# Altium footprint library TI PCB.PCBLIB: 93 footprints (part 2 of 6)
Each footprint in its own frame and in the unit in brackets; x right, y up, seen from the top. Pads: shape width x height; smd on the part's side, far side on the other; paste and mask are expansions set on the pad; w line width, h text height; cw(c..) or ccw(c..) is an arc to the next point about the centre after c.
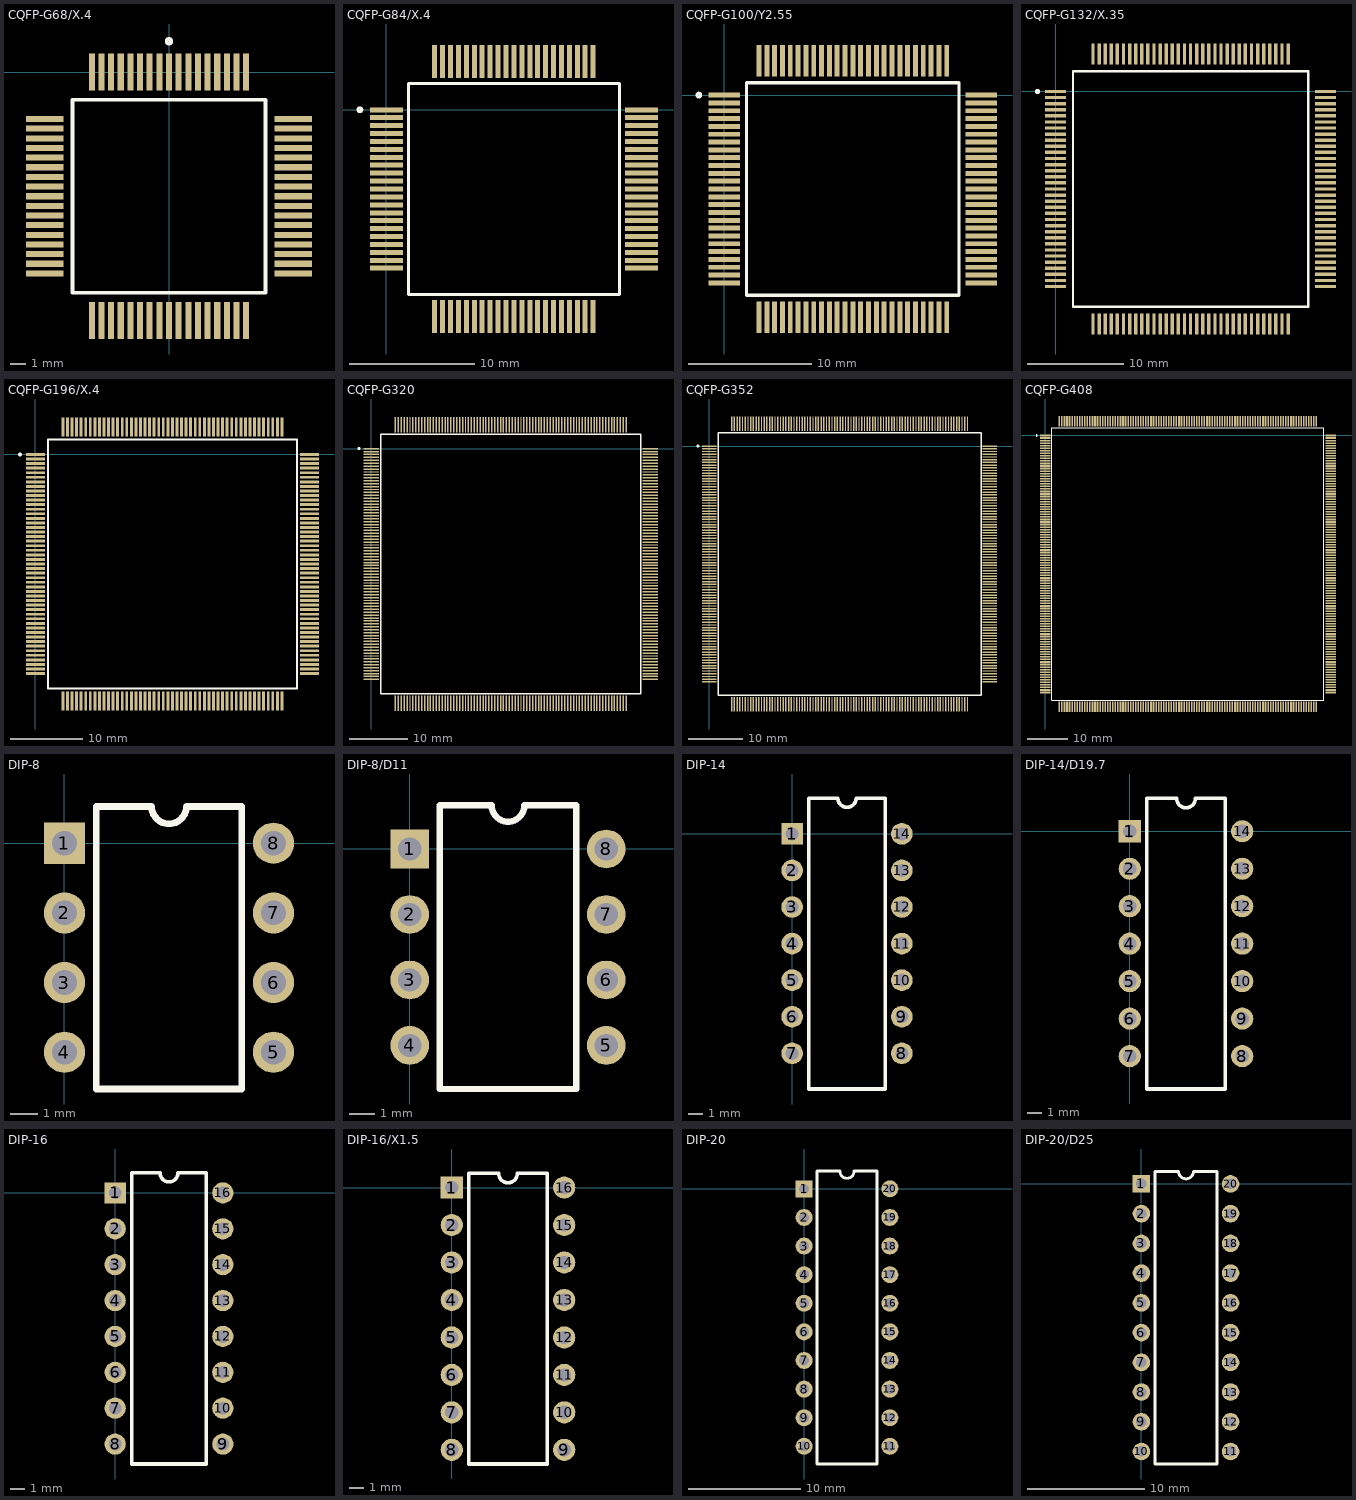
[diagram p1: the footprints below, top view; thin cyan lines are the x and y axes]

## CQFP-G68/X.4 [mm]
pads (68):
  rect 0.4x2.45 smd: 1(0,0) 2(-0.635,0) 3(-1.27,0) 4(-1.905,0) 5(-2.54,0) 6(-3.175,0) 7(-3.81,0) 8(-4.445,0) 9(-5.08,0) 27(-5.08,-16.35) 28(-4.445,-16.35) 29(-3.81,-16.35) 30(-3.175,-16.35) 31(-2.54,-16.35) 32(-1.905,-16.35) 33(-1.27,-16.35) 34(-0.635,-16.35) 35(0,-16.35) 36(0.635,-16.35) 37(1.27,-16.35) 38(1.905,-16.35) 39(2.54,-16.35) 40(3.175,-16.35) 41(3.81,-16.35) 42(4.445,-16.35) 43(5.08,-16.35) 61(5.08,0) 62(4.445,0) 63(3.81,0) 64(3.175,0) 65(2.54,0) 66(1.905,0) 67(1.27,0) 68(0.635,0)
  rect 2.45x0.4 smd: 10(-8.175,-3.095) 11(-8.175,-3.73) 12(-8.175,-4.365) 13(-8.175,-5) 14(-8.175,-5.635) 15(-8.175,-6.27) 16(-8.175,-6.905) 17(-8.175,-7.54) 18(-8.175,-8.175) 19(-8.175,-8.81) 20(-8.175,-9.445) 21(-8.175,-10.08) 22(-8.175,-10.715) 23(-8.175,-11.35) 24(-8.175,-11.985) 25(-8.175,-12.62) 26(-8.175,-13.255) 44(8.175,-13.255) 45(8.175,-12.62) 46(8.175,-11.985) 47(8.175,-11.35) 48(8.175,-10.715) 49(8.175,-10.08) 50(8.175,-9.445) 51(8.175,-8.81) 52(8.175,-8.175) 53(8.175,-7.54) 54(8.175,-6.905) 55(8.175,-6.27) 56(8.175,-5.635) 57(8.175,-5) 58(8.175,-4.365) 59(8.175,-3.73) 60(8.175,-3.095)
Top Overlay:
  circle w0.25: c0,2.025 r0.15
  lines w0.25: -6.35,-14.525 -6.35,-1.825 6.35,-1.825 6.35,-14.525 -6.35,-14.525

## CQFP-G84/X.4 [mm]
pads (84):
  rect 2.65x0.4 smd: 1(0,0) 2(0,-0.635) 3(0,-1.27) 4(0,-1.905) 5(0,-2.54) 6(0,-3.175) 7(0,-3.81) 8(0,-4.445) 9(0,-5.08) 10(0,-5.715) 11(0,-6.35) 12(0,-6.985) 13(0,-7.62) 14(0,-8.255) 15(0,-8.89) 16(0,-9.525) 17(0,-10.16) 18(0,-10.795) 19(0,-11.43) 20(0,-12.065) 21(0,-12.7) 43(20.45,-12.7) 44(20.45,-12.065) 45(20.45,-11.43) 46(20.45,-10.795) 47(20.45,-10.16) 48(20.45,-9.525) 49(20.45,-8.89) 50(20.45,-8.255) 51(20.45,-7.62) 52(20.45,-6.985) 53(20.45,-6.35) 54(20.45,-5.715) 55(20.45,-5.08) 56(20.45,-4.445) 57(20.45,-3.81) 58(20.45,-3.175) 59(20.45,-2.54) 60(20.45,-1.905) 61(20.45,-1.27) 62(20.45,-0.635) 63(20.45,0)
  rect 0.4x2.65 smd: 22(3.875,-16.575) 23(4.51,-16.575) 24(5.145,-16.575) 25(5.78,-16.575) 26(6.415,-16.575) 27(7.05,-16.575) 28(7.685,-16.575) 29(8.32,-16.575) 30(8.955,-16.575) 31(9.59,-16.575) 32(10.225,-16.575) 33(10.86,-16.575) 34(11.495,-16.575) 35(12.13,-16.575) 36(12.765,-16.575) 37(13.4,-16.575) 38(14.035,-16.575) 39(14.67,-16.575) 40(15.305,-16.575) 41(15.94,-16.575) 42(16.575,-16.575) 64(16.575,3.875) 65(15.94,3.875) 66(15.305,3.875) 67(14.67,3.875) 68(14.035,3.875) 69(13.4,3.875) 70(12.765,3.875) 71(12.13,3.875) 72(11.495,3.875) 73(10.86,3.875) 74(10.225,3.875) 75(9.59,3.875) 76(8.955,3.875) 77(8.32,3.875) 78(7.685,3.875) 79(7.05,3.875) 80(6.415,3.875) 81(5.78,3.875) 82(5.145,3.875) 83(4.51,3.875) 84(3.875,3.875)
Top Overlay:
  circle w0.25: c-2.125,0 r0.15
  lines w0.25: 1.775,-14.8 18.675,-14.8 18.675,2.1 1.775,2.1 1.775,-14.8

## CQFP-G100/Y2.55 [mm]
pads (100):
  rect 2.55x0.4 smd: 1(0,0) 2(0,-0.635) 3(0,-1.27) 4(0,-1.905) 5(0,-2.54) 6(0,-3.175) 7(0,-3.81) 8(0,-4.445) 9(0,-5.08) 10(0,-5.715) 11(0,-6.35) 12(0,-6.985) 13(0,-7.62) 14(0,-8.255) 15(0,-8.89) 16(0,-9.525) 17(0,-10.16) 18(0,-10.795) 19(0,-11.43) 20(0,-12.065) 21(0,-12.7) 22(0,-13.335) 23(0,-13.97) 24(0,-14.605) 25(0,-15.24) 51(20.85,-15.24) 52(20.85,-14.605) 53(20.85,-13.97) 54(20.85,-13.335) 55(20.85,-12.7) 56(20.85,-12.065) 57(20.85,-11.43) 58(20.85,-10.795) 59(20.85,-10.16) 60(20.85,-9.525) 61(20.85,-8.89) 62(20.85,-8.255) 63(20.85,-7.62) 64(20.85,-6.985) 65(20.85,-6.35) 66(20.85,-5.715) 67(20.85,-5.08) 68(20.85,-4.445) 69(20.85,-3.81) 70(20.85,-3.175) 71(20.85,-2.54) 72(20.85,-1.905) 73(20.85,-1.27) 74(20.85,-0.635) 75(20.85,0)
  rect 0.4x2.55 smd: 26(2.805,-18.045) 27(3.44,-18.045) 28(4.075,-18.045) 29(4.71,-18.045) 30(5.345,-18.045) 31(5.98,-18.045) 32(6.615,-18.045) 33(7.25,-18.045) 34(7.885,-18.045) 35(8.52,-18.045) 36(9.155,-18.045) 37(9.79,-18.045) 38(10.425,-18.045) 39(11.06,-18.045) 40(11.695,-18.045) 41(12.33,-18.045) 42(12.965,-18.045) 43(13.6,-18.045) 44(14.235,-18.045) 45(14.87,-18.045) 46(15.505,-18.045) 47(16.14,-18.045) 48(16.775,-18.045) 49(17.41,-18.045) 50(18.045,-18.045) 76(18.045,2.805) 77(17.41,2.805) 78(16.775,2.805) 79(16.14,2.805) 80(15.505,2.805) 81(14.87,2.805) 82(14.235,2.805) 83(13.6,2.805) 84(12.965,2.805) 85(12.33,2.805) 86(11.695,2.805) 87(11.06,2.805) 88(10.425,2.805) 89(9.79,2.805) 90(9.155,2.805) 91(8.52,2.805) 92(7.885,2.805) 93(7.25,2.805) 94(6.615,2.805) 95(5.98,2.805) 96(5.345,2.805) 97(4.71,2.805) 98(4.075,2.805) 99(3.44,2.805) 100(2.805,2.805)
Top Overlay:
  circle w0.25: c-2.075,0 r0.15
  lines w0.25: 1.8,-16.245 19.05,-16.245 19.05,1.005 1.8,1.005 1.8,-16.245

## CQFP-G132/X.35 [mm]
pads (132):
  rect 2.2x0.35 smd: 1(0,0) 2(0,-0.635) 3(0,-1.27) 4(0,-1.905) 5(0,-2.54) 6(0,-3.175) 7(0,-3.81) 8(0,-4.445) 9(0,-5.08) 10(0,-5.715) 11(0,-6.35) 12(0,-6.985) 13(0,-7.62) 14(0,-8.255) 15(0,-8.89) 16(0,-9.525) 17(0,-10.16) 18(0,-10.795) 19(0,-11.43) 20(0,-12.065) 21(0,-12.7) 22(0,-13.335) 23(0,-13.97) 24(0,-14.605) 25(0,-15.24) 26(0,-15.875) 27(0,-16.51) 28(0,-17.145) 29(0,-17.78) 30(0,-18.415) 31(0,-19.05) 32(0,-19.685) 33(0,-20.32) 67(28.1,-20.32) 68(28.1,-19.685) 69(28.1,-19.05) 70(28.1,-18.415) 71(28.1,-17.78) 72(28.1,-17.145) 73(28.1,-16.51) 74(28.1,-15.875) 75(28.1,-15.24) 76(28.1,-14.605) 77(28.1,-13.97) 78(28.1,-13.335) 79(28.1,-12.7) 80(28.1,-12.065) 81(28.1,-11.43) 82(28.1,-10.795) 83(28.1,-10.16) 84(28.1,-9.525) 85(28.1,-8.89) 86(28.1,-8.255) 87(28.1,-7.62) 88(28.1,-6.985) 89(28.1,-6.35) 90(28.1,-5.715) 91(28.1,-5.08) 92(28.1,-4.445) 93(28.1,-3.81) 94(28.1,-3.175) 95(28.1,-2.54) 96(28.1,-1.905) 97(28.1,-1.27) 98(28.1,-0.635) 99(28.1,0)
  rect 0.35x2.2 smd: 34(3.89,-24.21) 35(4.525,-24.21) 36(5.16,-24.21) 37(5.795,-24.21) 38(6.43,-24.21) 39(7.065,-24.21) 40(7.7,-24.21) 41(8.335,-24.21) 42(8.97,-24.21) 43(9.605,-24.21) 44(10.24,-24.21) 45(10.875,-24.21) 46(11.51,-24.21) 47(12.145,-24.21) 48(12.78,-24.21) 49(13.415,-24.21) 50(14.05,-24.21) 51(14.685,-24.21) 52(15.32,-24.21) 53(15.955,-24.21) 54(16.59,-24.21) 55(17.225,-24.21) 56(17.86,-24.21) 57(18.495,-24.21) 58(19.13,-24.21) 59(19.765,-24.21) 60(20.4,-24.21) 61(21.035,-24.21) 62(21.67,-24.21) 63(22.305,-24.21) 64(22.94,-24.21) 65(23.575,-24.21) 66(24.21,-24.21) 100(24.21,3.89) 101(23.575,3.89) 102(22.94,3.89) 103(22.305,3.89) 104(21.67,3.89) 105(21.035,3.89) 106(20.4,3.89) 107(19.765,3.89) 108(19.13,3.89) 109(18.495,3.89) 110(17.86,3.89) 111(17.225,3.89) 112(16.59,3.89) 113(15.955,3.89) 114(15.32,3.89) 115(14.685,3.89) 116(14.05,3.89) 117(13.415,3.89) 118(12.78,3.89) 119(12.145,3.89) 120(11.51,3.89) 121(10.875,3.89) 122(10.24,3.89) 123(9.605,3.89) 124(8.97,3.89) 125(8.335,3.89) 126(7.7,3.89) 127(7.065,3.89) 128(6.43,3.89) 129(5.795,3.89) 130(5.16,3.89) 131(4.525,3.89) 132(3.89,3.89)
Top Overlay:
  circle w0.25: c-1.9,0 r0.15
  lines w0.25: 1.8,-22.41 26.3,-22.41 26.3,2.09 1.8,2.09 1.8,-22.41

## CQFP-G196/X.4 [mm]
pads (196):
  rect 2.65x0.4 smd: 1(0,0) 2(0,-0.635) 3(0,-1.27) 4(0,-1.905) 5(0,-2.54) 6(0,-3.175) 7(0,-3.81) 8(0,-4.445) 9(0,-5.08) 10(0,-5.715) 11(0,-6.35) 12(0,-6.985) 13(0,-7.62) 14(0,-8.255) 15(0,-8.89) 16(0,-9.525) 17(0,-10.16) 18(0,-10.795) 19(0,-11.43) 20(0,-12.065) 21(0,-12.7) 22(0,-13.335) 23(0,-13.97) 24(0,-14.605) 25(0,-15.24) 26(0,-15.875) 27(0,-16.51) 28(0,-17.145) 29(0,-17.78) 30(0,-18.415) 31(0,-19.05) 32(0,-19.685) 33(0,-20.32) 34(0,-20.955) 35(0,-21.59) 36(0,-22.225) 37(0,-22.86) 38(0,-23.495) 39(0,-24.13) 40(0,-24.765) 41(0,-25.4) 42(0,-26.035) 43(0,-26.67) 44(0,-27.305) 45(0,-27.94) 46(0,-28.575) 47(0,-29.21) 48(0,-29.845) 49(0,-30.48) 99(38.15,-30.48) 100(38.15,-29.845) 101(38.15,-29.21) 102(38.15,-28.575) 103(38.15,-27.94) 104(38.15,-27.305) 105(38.15,-26.67) 106(38.15,-26.035) 107(38.15,-25.4) 108(38.15,-24.765) 109(38.15,-24.13) 110(38.15,-23.495) 111(38.15,-22.86) 112(38.15,-22.225) 113(38.15,-21.59) 114(38.15,-20.955) 115(38.15,-20.32) 116(38.15,-19.685) 117(38.15,-19.05) 118(38.15,-18.415) 119(38.15,-17.78) 120(38.15,-17.145) 121(38.15,-16.51) 122(38.15,-15.875) 123(38.15,-15.24) 124(38.15,-14.605) 125(38.15,-13.97) 126(38.15,-13.335) 127(38.15,-12.7) 128(38.15,-12.065) 129(38.15,-11.43) 130(38.15,-10.795) 131(38.15,-10.16) 132(38.15,-9.525) 133(38.15,-8.89) 134(38.15,-8.255) 135(38.15,-7.62) 136(38.15,-6.985) 137(38.15,-6.35) 138(38.15,-5.715) 139(38.15,-5.08) 140(38.15,-4.445) 141(38.15,-3.81) 142(38.15,-3.175) 143(38.15,-2.54) 144(38.15,-1.905) 145(38.15,-1.27) 146(38.15,-0.635) 147(38.15,0)
  rect 0.4x2.65 smd: 50(3.835,-34.315) 51(4.47,-34.315) 52(5.105,-34.315) 53(5.74,-34.315) 54(6.375,-34.315) 55(7.01,-34.315) 56(7.645,-34.315) 57(8.28,-34.315) 58(8.915,-34.315) 59(9.55,-34.315) 60(10.185,-34.315) 61(10.82,-34.315) 62(11.455,-34.315) 63(12.09,-34.315) 64(12.725,-34.315) 65(13.36,-34.315) 66(13.995,-34.315) 67(14.63,-34.315) 68(15.265,-34.315) 69(15.9,-34.315) 70(16.535,-34.315) 71(17.17,-34.315) 72(17.805,-34.315) 73(18.44,-34.315) 74(19.075,-34.315) 75(19.71,-34.315) 76(20.345,-34.315) 77(20.98,-34.315) 78(21.615,-34.315) 79(22.25,-34.315) 80(22.885,-34.315) 81(23.52,-34.315) 82(24.155,-34.315) 83(24.79,-34.315) 84(25.425,-34.315) 85(26.06,-34.315) 86(26.695,-34.315) 87(27.33,-34.315) 88(27.965,-34.315) 89(28.6,-34.315) 90(29.235,-34.315) 91(29.87,-34.315) 92(30.505,-34.315) 93(31.14,-34.315) 94(31.775,-34.315) 95(32.41,-34.315) 96(33.045,-34.315) 97(33.68,-34.315) 98(34.315,-34.315) 148(34.315,3.835) 149(33.68,3.835) 150(33.045,3.835) 151(32.41,3.835) 152(31.775,3.835) 153(31.14,3.835) 154(30.505,3.835) 155(29.87,3.835) 156(29.235,3.835) 157(28.6,3.835) 158(27.965,3.835) 159(27.33,3.835) 160(26.695,3.835) 161(26.06,3.835) 162(25.425,3.835) 163(24.79,3.835) 164(24.155,3.835) 165(23.52,3.835) 166(22.885,3.835) 167(22.25,3.835) 168(21.615,3.835) 169(20.98,3.835) 170(20.345,3.835) 171(19.71,3.835) 172(19.075,3.835) 173(18.44,3.835) 174(17.805,3.835) 175(17.17,3.835) 176(16.535,3.835) 177(15.9,3.835) 178(15.265,3.835) 179(14.63,3.835) 180(13.995,3.835) 181(13.36,3.835) 182(12.725,3.835) 183(12.09,3.835) 184(11.455,3.835) 185(10.82,3.835) 186(10.185,3.835) 187(9.55,3.835) 188(8.915,3.835) 189(8.28,3.835) 190(7.645,3.835) 191(7.01,3.835) 192(6.375,3.835) 193(5.74,3.835) 194(5.105,3.835) 195(4.47,3.835) 196(3.835,3.835)
Top Overlay:
  circle w0.25: c-2.125,0 r0.15
  lines w0.25: 1.75,-32.565 1.75,2.085 36.4,2.085 36.4,-32.565 1.75,-32.565

## CQFP-G320 [mm]
pads (320):
  rect 2.65x0.25 smd: 1(0,0) 2(0,-0.5) 3(0,-1) 4(0,-1.5) 5(0,-2) 6(0,-2.5) 7(0,-3) 8(0,-3.5) 9(0,-4) 10(0,-4.5) 11(0,-5) 12(0,-5.5) 13(0,-6) 14(0,-6.5) 15(0,-7) 16(0,-7.5) 17(0,-8) 18(0,-8.5) 19(0,-9) 20(0,-9.5) 21(0,-10) 22(0,-10.5) 23(0,-11) 24(0,-11.5) 25(0,-12) 26(0,-12.5) 27(0,-13) 28(0,-13.5) 29(0,-14) 30(0,-14.5) 31(0,-15) 32(0,-15.5) 33(0,-16) 34(0,-16.5) 35(0,-17) 36(0,-17.5) 37(0,-18) 38(0,-18.5) 39(0,-19) 40(0,-19.5) 41(0,-20) 42(0,-20.5) 43(0,-21) 44(0,-21.5) 45(0,-22) 46(0,-22.5) 47(0,-23) 48(0,-23.5) 49(0,-24) 50(0,-24.5) 51(0,-25) 52(0,-25.5) 53(0,-26) 54(0,-26.5) 55(0,-27) 56(0,-27.5) 57(0,-28) 58(0,-28.5) 59(0,-29) 60(0,-29.5) 61(0,-30) 62(0,-30.5) 63(0,-31) 64(0,-31.5) 65(0,-32) 66(0,-32.5) 67(0,-33) 68(0,-33.5) 69(0,-34) 70(0,-34.5) 71(0,-35) 72(0,-35.5) 73(0,-36) 74(0,-36.5) 75(0,-37) 76(0,-37.5) 77(0,-38) 78(0,-38.5) 79(0,-39) 80(0,-39.5) 161(47.75,-39.5) 162(47.75,-39) 163(47.75,-38.5) 164(47.75,-38) 165(47.75,-37.5) 166(47.75,-37) 167(47.75,-36.5) 168(47.75,-36) 169(47.75,-35.5) 170(47.75,-35) 171(47.75,-34.5) 172(47.75,-34) 173(47.75,-33.5) 174(47.75,-33) 175(47.75,-32.5) 176(47.75,-32) 177(47.75,-31.5) 178(47.75,-31) 179(47.75,-30.5) 180(47.75,-30) 181(47.75,-29.5) 182(47.75,-29) 183(47.75,-28.5) 184(47.75,-28) 185(47.75,-27.5) 186(47.75,-27) 187(47.75,-26.5) 188(47.75,-26) 189(47.75,-25.5) 190(47.75,-25) 191(47.75,-24.5) 192(47.75,-24) 193(47.75,-23.5) 194(47.75,-23) 195(47.75,-22.5) 196(47.75,-22) 197(47.75,-21.5) 198(47.75,-21) 199(47.75,-20.5) 200(47.75,-20) 201(47.75,-19.5) 202(47.75,-19) 203(47.75,-18.5) 204(47.75,-18) 205(47.75,-17.5) 206(47.75,-17) 207(47.75,-16.5) 208(47.75,-16) 209(47.75,-15.5) 210(47.75,-15) 211(47.75,-14.5) 212(47.75,-14) 213(47.75,-13.5) 214(47.75,-13) 215(47.75,-12.5) 216(47.75,-12) 217(47.75,-11.5) 218(47.75,-11) 219(47.75,-10.5) 220(47.75,-10) 221(47.75,-9.5) 222(47.75,-9) 223(47.75,-8.5) 224(47.75,-8) 225(47.75,-7.5) 226(47.75,-7) 227(47.75,-6.5) 228(47.75,-6) 229(47.75,-5.5) 230(47.75,-5) 231(47.75,-4.5) 232(47.75,-4) 233(47.75,-3.5) 234(47.75,-3) 235(47.75,-2.5) 236(47.75,-2) 237(47.75,-1.5) 238(47.75,-1) 239(47.75,-0.5) 240(47.75,0)
  rect 0.25x2.65 smd: 81(4.125,-43.625) 82(4.625,-43.625) 83(5.125,-43.625) 84(5.625,-43.625) 85(6.125,-43.625) 86(6.625,-43.625) 87(7.125,-43.625) 88(7.625,-43.625) 89(8.125,-43.625) 90(8.625,-43.625) 91(9.125,-43.625) 92(9.625,-43.625) 93(10.125,-43.625) 94(10.625,-43.625) 95(11.125,-43.625) 96(11.625,-43.625) 97(12.125,-43.625) 98(12.625,-43.625) 99(13.125,-43.625) 100(13.625,-43.625) 101(14.125,-43.625) 102(14.625,-43.625) 103(15.125,-43.625) 104(15.625,-43.625) 105(16.125,-43.625) 106(16.625,-43.625) 107(17.125,-43.625) 108(17.625,-43.625) 109(18.125,-43.625) 110(18.625,-43.625) 111(19.125,-43.625) 112(19.625,-43.625) 113(20.125,-43.625) 114(20.625,-43.625) 115(21.125,-43.625) 116(21.625,-43.625) 117(22.125,-43.625) 118(22.625,-43.625) 119(23.125,-43.625) 120(23.625,-43.625) 121(24.125,-43.625) 122(24.625,-43.625) 123(25.125,-43.625) 124(25.625,-43.625) 125(26.125,-43.625) 126(26.625,-43.625) 127(27.125,-43.625) 128(27.625,-43.625) 129(28.125,-43.625) 130(28.625,-43.625) 131(29.125,-43.625) 132(29.625,-43.625) 133(30.125,-43.625) 134(30.625,-43.625) 135(31.125,-43.625) 136(31.625,-43.625) 137(32.125,-43.625) 138(32.625,-43.625) 139(33.125,-43.625) 140(33.625,-43.625) 141(34.125,-43.625) 142(34.625,-43.625) 143(35.125,-43.625) 144(35.625,-43.625) 145(36.125,-43.625) 146(36.625,-43.625) 147(37.125,-43.625) 148(37.625,-43.625) 149(38.125,-43.625) 150(38.625,-43.625) 151(39.125,-43.625) 152(39.625,-43.625) 153(40.125,-43.625) 154(40.625,-43.625) 155(41.125,-43.625) 156(41.625,-43.625) 157(42.125,-43.625) 158(42.625,-43.625) 159(43.125,-43.625) 160(43.625,-43.625) 241(43.625,4.125) 242(43.125,4.125) 243(42.625,4.125) 244(42.125,4.125) 245(41.625,4.125) 246(41.125,4.125) 247(40.625,4.125) 248(40.125,4.125) 249(39.625,4.125) 250(39.125,4.125) 251(38.625,4.125) 252(38.125,4.125) 253(37.625,4.125) 254(37.125,4.125) 255(36.625,4.125) 256(36.125,4.125) 257(35.625,4.125) 258(35.125,4.125) 259(34.625,4.125) 260(34.125,4.125) 261(33.625,4.125) 262(33.125,4.125) 263(32.625,4.125) 264(32.125,4.125) 265(31.625,4.125) 266(31.125,4.125) 267(30.625,4.125) 268(30.125,4.125) 269(29.625,4.125) 270(29.125,4.125) 271(28.625,4.125) 272(28.125,4.125) 273(27.625,4.125) 274(27.125,4.125) 275(26.625,4.125) 276(26.125,4.125) 277(25.625,4.125) 278(25.125,4.125) 279(24.625,4.125) 280(24.125,4.125) 281(23.625,4.125) 282(23.125,4.125) 283(22.625,4.125) 284(22.125,4.125) 285(21.625,4.125) 286(21.125,4.125) 287(20.625,4.125) 288(20.125,4.125) 289(19.625,4.125) 290(19.125,4.125) 291(18.625,4.125) 292(18.125,4.125) 293(17.625,4.125) 294(17.125,4.125) 295(16.625,4.125) 296(16.125,4.125) 297(15.625,4.125) 298(15.125,4.125) 299(14.625,4.125) 300(14.125,4.125) 301(13.625,4.125) 302(13.125,4.125) 303(12.625,4.125) 304(12.125,4.125) 305(11.625,4.125) 306(11.125,4.125) 307(10.625,4.125) 308(10.125,4.125) 309(9.625,4.125) 310(9.125,4.125) 311(8.625,4.125) 312(8.125,4.125) 313(7.625,4.125) 314(7.125,4.125) 315(6.625,4.125) 316(6.125,4.125) 317(5.625,4.125) 318(5.125,4.125) 319(4.625,4.125) 320(4.125,4.125)
Top Overlay:
  circle w0.25: c-2.125,0 r0.15
  lines w0.25: 1.65,-41.975 1.65,2.475 46.1,2.475 46.1,-41.975 1.65,-41.975

## CQFP-G352 [mm]
pads (352):
  rect 2.65x0.25 smd: 1(0,0) 2(0,-0.5) 3(0,-1) 4(0,-1.5) 5(0,-2) 6(0,-2.5) 7(0,-3) 8(0,-3.5) 9(0,-4) 10(0,-4.5) 11(0,-5) 12(0,-5.5) 13(0,-6) 14(0,-6.5) 15(0,-7) 16(0,-7.5) 17(0,-8) 18(0,-8.5) 19(0,-9) 20(0,-9.5) 21(0,-10) 22(0,-10.5) 23(0,-11) 24(0,-11.5) 25(0,-12) 26(0,-12.5) 27(0,-13) 28(0,-13.5) 29(0,-14) 30(0,-14.5) 31(0,-15) 32(0,-15.5) 33(0,-16) 34(0,-16.5) 35(0,-17) 36(0,-17.5) 37(0,-18) 38(0,-18.5) 39(0,-19) 40(0,-19.5) 41(0,-20) 42(0,-20.5) 43(0,-21) 44(0,-21.5) 45(0,-22) 46(0,-22.5) 47(0,-23) 48(0,-23.5) 49(0,-24) 50(0,-24.5) 51(0,-25) 52(0,-25.5) 53(0,-26) 54(0,-26.5) 55(0,-27) 56(0,-27.5) 57(0,-28) 58(0,-28.5) 59(0,-29) 60(0,-29.5) 61(0,-30) 62(0,-30.5) 63(0,-31) 64(0,-31.5) 65(0,-32) 66(0,-32.5) 67(0,-33) 68(0,-33.5) 69(0,-34) 70(0,-34.5) 71(0,-35) 72(0,-35.5) 73(0,-36) 74(0,-36.5) 75(0,-37) 76(0,-37.5) 77(0,-38) 78(0,-38.5) 79(0,-39) 80(0,-39.5) 81(0,-40) 82(0,-40.5) 83(0,-41) 84(0,-41.5) 85(0,-42) 86(0,-42.5) 87(0,-43) 88(0,-43.5) 177(51.75,-43.5) 178(51.75,-43) 179(51.75,-42.5) 180(51.75,-42) 181(51.75,-41.5) 182(51.75,-41) 183(51.75,-40.5) 184(51.75,-40) 185(51.75,-39.5) 186(51.75,-39) 187(51.75,-38.5) 188(51.75,-38) 189(51.75,-37.5) 190(51.75,-37) 191(51.75,-36.5) 192(51.75,-36) 193(51.75,-35.5) 194(51.75,-35) 195(51.75,-34.5) 196(51.75,-34) 197(51.75,-33.5) 198(51.75,-33) 199(51.75,-32.5) 200(51.75,-32) 201(51.75,-31.5) 202(51.75,-31) 203(51.75,-30.5) 204(51.75,-30) 205(51.75,-29.5) 206(51.75,-29) 207(51.75,-28.5) 208(51.75,-28) 209(51.75,-27.5) 210(51.75,-27) 211(51.75,-26.5) 212(51.75,-26) 213(51.75,-25.5) 214(51.75,-25) 215(51.75,-24.5) 216(51.75,-24) 217(51.75,-23.5) 218(51.75,-23) 219(51.75,-22.5) 220(51.75,-22) 221(51.75,-21.5) 222(51.75,-21) 223(51.75,-20.5) 224(51.75,-20) 225(51.75,-19.5) 226(51.75,-19) 227(51.75,-18.5) 228(51.75,-18) 229(51.75,-17.5) 230(51.75,-17) 231(51.75,-16.5) 232(51.75,-16) 233(51.75,-15.5) 234(51.75,-15) 235(51.75,-14.5) 236(51.75,-14) 237(51.75,-13.5) 238(51.75,-13) 239(51.75,-12.5) 240(51.75,-12) 241(51.75,-11.5) 242(51.75,-11) 243(51.75,-10.5) 244(51.75,-10) 245(51.75,-9.5) 246(51.75,-9) 247(51.75,-8.5) 248(51.75,-8) 249(51.75,-7.5) 250(51.75,-7) 251(51.75,-6.5) 252(51.75,-6) 253(51.75,-5.5) 254(51.75,-5) 255(51.75,-4.5) 256(51.75,-4) 257(51.75,-3.5) 258(51.75,-3) 259(51.75,-2.5) 260(51.75,-2) 261(51.75,-1.5) 262(51.75,-1) 263(51.75,-0.5) 264(51.75,0)
  rect 0.25x2.65 smd: 89(4.125,-47.625) 90(4.625,-47.625) 91(5.125,-47.625) 92(5.625,-47.625) 93(6.125,-47.625) 94(6.625,-47.625) 95(7.125,-47.625) 96(7.625,-47.625) 97(8.125,-47.625) 98(8.625,-47.625) 99(9.125,-47.625) 100(9.625,-47.625) 101(10.125,-47.625) 102(10.625,-47.625) 103(11.125,-47.625) 104(11.625,-47.625) 105(12.125,-47.625) 106(12.625,-47.625) 107(13.125,-47.625) 108(13.625,-47.625) 109(14.125,-47.625) 110(14.625,-47.625) 111(15.125,-47.625) 112(15.625,-47.625) 113(16.125,-47.625) 114(16.625,-47.625) 115(17.125,-47.625) 116(17.625,-47.625) 117(18.125,-47.625) 118(18.625,-47.625) 119(19.125,-47.625) 120(19.625,-47.625) 121(20.125,-47.625) 122(20.625,-47.625) 123(21.125,-47.625) 124(21.625,-47.625) 125(22.125,-47.625) 126(22.625,-47.625) 127(23.125,-47.625) 128(23.625,-47.625) 129(24.125,-47.625) 130(24.625,-47.625) 131(25.125,-47.625) 132(25.625,-47.625) 133(26.125,-47.625) 134(26.625,-47.625) 135(27.125,-47.625) 136(27.625,-47.625) 137(28.125,-47.625) 138(28.625,-47.625) 139(29.125,-47.625) 140(29.625,-47.625) 141(30.125,-47.625) 142(30.625,-47.625) 143(31.125,-47.625) 144(31.625,-47.625) 145(32.125,-47.625) 146(32.625,-47.625) 147(33.125,-47.625) 148(33.625,-47.625) 149(34.125,-47.625) 150(34.625,-47.625) 151(35.125,-47.625) 152(35.625,-47.625) 153(36.125,-47.625) 154(36.625,-47.625) 155(37.125,-47.625) 156(37.625,-47.625) 157(38.125,-47.625) 158(38.625,-47.625) 159(39.125,-47.625) 160(39.625,-47.625) 161(40.125,-47.625) 162(40.625,-47.625) 163(41.125,-47.625) 164(41.625,-47.625) 165(42.125,-47.625) 166(42.625,-47.625) 167(43.125,-47.625) 168(43.625,-47.625) 169(44.125,-47.625) 170(44.625,-47.625) 171(45.125,-47.625) 172(45.625,-47.625) 173(46.125,-47.625) 174(46.625,-47.625) 175(47.125,-47.625) 176(47.625,-47.625) 265(47.625,4.125) 266(47.125,4.125) 267(46.625,4.125) 268(46.125,4.125) 269(45.625,4.125) 270(45.125,4.125) 271(44.625,4.125) 272(44.125,4.125) 273(43.625,4.125) 274(43.125,4.125) 275(42.625,4.125) 276(42.125,4.125) 277(41.625,4.125) 278(41.125,4.125) 279(40.625,4.125) 280(40.125,4.125) 281(39.625,4.125) 282(39.125,4.125) 283(38.625,4.125) 284(38.125,4.125) 285(37.625,4.125) 286(37.125,4.125) 287(36.625,4.125) 288(36.125,4.125) 289(35.625,4.125) 290(35.125,4.125) 291(34.625,4.125) 292(34.125,4.125) 293(33.625,4.125) 294(33.125,4.125) 295(32.625,4.125) 296(32.125,4.125) 297(31.625,4.125) 298(31.125,4.125) 299(30.625,4.125) 300(30.125,4.125) 301(29.625,4.125) 302(29.125,4.125) 303(28.625,4.125) 304(28.125,4.125) 305(27.625,4.125) 306(27.125,4.125) 307(26.625,4.125) 308(26.125,4.125) 309(25.625,4.125) 310(25.125,4.125) 311(24.625,4.125) 312(24.125,4.125) 313(23.625,4.125) 314(23.125,4.125) 315(22.625,4.125) 316(22.125,4.125) 317(21.625,4.125) 318(21.125,4.125) 319(20.625,4.125) 320(20.125,4.125) 321(19.625,4.125) 322(19.125,4.125) 323(18.625,4.125) 324(18.125,4.125) 325(17.625,4.125) 326(17.125,4.125) 327(16.625,4.125) 328(16.125,4.125) 329(15.625,4.125) 330(15.125,4.125) 331(14.625,4.125) 332(14.125,4.125) 333(13.625,4.125) 334(13.125,4.125) 335(12.625,4.125) 336(12.125,4.125) 337(11.625,4.125) 338(11.125,4.125) 339(10.625,4.125) 340(10.125,4.125) 341(9.625,4.125) 342(9.125,4.125) 343(8.625,4.125) 344(8.125,4.125) 345(7.625,4.125) 346(7.125,4.125) 347(6.625,4.125) 348(6.125,4.125) 349(5.625,4.125) 350(5.125,4.125) 351(4.625,4.125) 352(4.125,4.125)
Top Overlay:
  circle w0.25: c-2.125,0 r0.15
  lines w0.25: 1.625,-46 50.125,-46 50.125,2.5 1.625,2.5 1.625,-46

## CQFP-G408 [mm]
pads (408):
  rect 2.65x0.4 smd: 1(0,0) 2(0,-0.635) 3(0,-1.27) 4(0,-1.905) 5(0,-2.54) 6(0,-3.175) 7(0,-3.81) 8(0,-4.445) 9(0,-5.08) 10(0,-5.715) 11(0,-6.35) 12(0,-6.985) 13(0,-7.62) 14(0,-8.255) 15(0,-8.89) 16(0,-9.525) 17(0,-10.16) 18(0,-10.795) 19(0,-11.43) 20(0,-12.065) 21(0,-12.7) 22(0,-13.335) 23(0,-13.97) 24(0,-14.605) 25(0,-15.24) 26(0,-15.875) 27(0,-16.51) 28(0,-17.145) 29(0,-17.78) 30(0,-18.415) 31(0,-19.05) 32(0,-19.685) 33(0,-20.32) 34(0,-20.955) 35(0,-21.59) 36(0,-22.225) 37(0,-22.86) 38(0,-23.495) 39(0,-24.13) 40(0,-24.765) 41(0,-25.4) 42(0,-26.035) 43(0,-26.67) 44(0,-27.305) 45(0,-27.94) 46(0,-28.575) 47(0,-29.21) 48(0,-29.845) 49(0,-30.48) 50(0,-31.115) 51(0,-31.75) 52(0,-32.385) 53(0,-33.02) 54(0,-33.655) 55(0,-34.29) 56(0,-34.925) 57(0,-35.56) 58(0,-36.195) 59(0,-36.83) 60(0,-37.465) 61(0,-38.1) 62(0,-38.735) 63(0,-39.37) 64(0,-40.005) 65(0,-40.64) 66(0,-41.275) 67(0,-41.91) 68(0,-42.545) 69(0,-43.18) 70(0,-43.815) 71(0,-44.45) 72(0,-45.085) 73(0,-45.72) 74(0,-46.355) 75(0,-46.99) 76(0,-47.625) 77(0,-48.26) 78(0,-48.895) 79(0,-49.53) 80(0,-50.165) 81(0,-50.8) 82(0,-51.435) 83(0,-52.07) 84(0,-52.705) 85(0,-53.34) 86(0,-53.975) 87(0,-54.61) 88(0,-55.245) 89(0,-55.88) 90(0,-56.515) 91(0,-57.15) 92(0,-57.785) 93(0,-58.42) 94(0,-59.055) 95(0,-59.69) 96(0,-60.325) 97(0,-60.96) 98(0,-61.595) 99(0,-62.23) 100(0,-62.865) 101(0,-63.5) 102(0,-64.135) 205(71.25,-64.135) 206(71.25,-63.5) 207(71.25,-62.865) 208(71.25,-62.23) 209(71.25,-61.595) 210(71.25,-60.96) 211(71.25,-60.325) 212(71.25,-59.69) 213(71.25,-59.055) 214(71.25,-58.42) 215(71.25,-57.785) 216(71.25,-57.15) 217(71.25,-56.515) 218(71.25,-55.88) 219(71.25,-55.245) 220(71.25,-54.61) 221(71.25,-53.975) 222(71.25,-53.34) 223(71.25,-52.705) 224(71.25,-52.07) 225(71.25,-51.435) 226(71.25,-50.8) 227(71.25,-50.165) 228(71.25,-49.53) 229(71.25,-48.895) 230(71.25,-48.26) 231(71.25,-47.625) 232(71.25,-46.99) 233(71.25,-46.355) 234(71.25,-45.72) 235(71.25,-45.085) 236(71.25,-44.45) 237(71.25,-43.815) 238(71.25,-43.18) 239(71.25,-42.545) 240(71.25,-41.91) 241(71.25,-41.275) 242(71.25,-40.64) 243(71.25,-40.005) 244(71.25,-39.37) 245(71.25,-38.735) 246(71.25,-38.1) 247(71.25,-37.465) 248(71.25,-36.83) 249(71.25,-36.195) 250(71.25,-35.56) 251(71.25,-34.925) 252(71.25,-34.29) 253(71.25,-33.655) 254(71.25,-33.02) 255(71.25,-32.385) 256(71.25,-31.75) 257(71.25,-31.115) 258(71.25,-30.48) 259(71.25,-29.845) 260(71.25,-29.21) 261(71.25,-28.575) 262(71.25,-27.94) 263(71.25,-27.305) 264(71.25,-26.67) 265(71.25,-26.035) 266(71.25,-25.4) 267(71.25,-24.765) 268(71.25,-24.13) 269(71.25,-23.495) 270(71.25,-22.86) 271(71.25,-22.225) 272(71.25,-21.59) 273(71.25,-20.955) 274(71.25,-20.32) 275(71.25,-19.685) 276(71.25,-19.05) 277(71.25,-18.415) 278(71.25,-17.78) 279(71.25,-17.145) 280(71.25,-16.51) 281(71.25,-15.875) 282(71.25,-15.24) 283(71.25,-14.605) 284(71.25,-13.97) 285(71.25,-13.335) 286(71.25,-12.7) 287(71.25,-12.065) 288(71.25,-11.43) 289(71.25,-10.795) 290(71.25,-10.16) 291(71.25,-9.525) 292(71.25,-8.89) 293(71.25,-8.255) 294(71.25,-7.62) 295(71.25,-6.985) 296(71.25,-6.35) 297(71.25,-5.715) 298(71.25,-5.08) 299(71.25,-4.445) 300(71.25,-3.81) 301(71.25,-3.175) 302(71.25,-2.54) 303(71.25,-1.905) 304(71.25,-1.27) 305(71.25,-0.635) 306(71.25,0)
  rect 0.4x2.65 smd: 103(3.555,-67.695) 104(4.19,-67.695) 105(4.825,-67.695) 106(5.46,-67.695) 107(6.095,-67.695) 108(6.73,-67.695) 109(7.365,-67.695) 110(8,-67.695) 111(8.635,-67.695) 112(9.27,-67.695) 113(9.905,-67.695) 114(10.54,-67.695) 115(11.175,-67.695) 116(11.81,-67.695) 117(12.445,-67.695) 118(13.08,-67.695) 119(13.715,-67.695) 120(14.35,-67.695) 121(14.985,-67.695) 122(15.62,-67.695) 123(16.255,-67.695) 124(16.89,-67.695) 125(17.525,-67.695) 126(18.16,-67.695) 127(18.795,-67.695) 128(19.43,-67.695) 129(20.065,-67.695) 130(20.7,-67.695) 131(21.335,-67.695) 132(21.97,-67.695) 133(22.605,-67.695) 134(23.24,-67.695) 135(23.875,-67.695) 136(24.51,-67.695) 137(25.145,-67.695) 138(25.78,-67.695) 139(26.415,-67.695) 140(27.05,-67.695) 141(27.685,-67.695) 142(28.32,-67.695) 143(28.955,-67.695) 144(29.59,-67.695) 145(30.225,-67.695) 146(30.86,-67.695) 147(31.495,-67.695) 148(32.13,-67.695) 149(32.765,-67.695) 150(33.4,-67.695) 151(34.035,-67.695) 152(34.67,-67.695) 153(35.305,-67.695) 154(35.94,-67.695) 155(36.575,-67.695) 156(37.21,-67.695) 157(37.845,-67.695) 158(38.48,-67.695) 159(39.115,-67.695) 160(39.75,-67.695) 161(40.385,-67.695) 162(41.02,-67.695) 163(41.655,-67.695) 164(42.29,-67.695) 165(42.925,-67.695) 166(43.56,-67.695) 167(44.195,-67.695) 168(44.83,-67.695) 169(45.465,-67.695) 170(46.1,-67.695) 171(46.735,-67.695) 172(47.37,-67.695) 173(48.005,-67.695) 174(48.64,-67.695) 175(49.275,-67.695) 176(49.91,-67.695) 177(50.545,-67.695) 178(51.18,-67.695) 179(51.815,-67.695) 180(52.45,-67.695) 181(53.085,-67.695) 182(53.72,-67.695) 183(54.355,-67.695) 184(54.99,-67.695) 185(55.625,-67.695) 186(56.26,-67.695) 187(56.895,-67.695) 188(57.53,-67.695) 189(58.165,-67.695) 190(58.8,-67.695) 191(59.435,-67.695) 192(60.07,-67.695) 193(60.705,-67.695) 194(61.34,-67.695) 195(61.975,-67.695) 196(62.61,-67.695) 197(63.245,-67.695) 198(63.88,-67.695) 199(64.515,-67.695) 200(65.15,-67.695) 201(65.785,-67.695) 202(66.42,-67.695) 203(67.055,-67.695) 204(67.69,-67.695) 307(67.69,3.555) 308(67.055,3.555) 309(66.42,3.555) 310(65.785,3.555) 311(65.15,3.555) 312(64.515,3.555) 313(63.88,3.555) 314(63.245,3.555) 315(62.61,3.555) 316(61.975,3.555) 317(61.34,3.555) 318(60.705,3.555) 319(60.07,3.555) 320(59.435,3.555) 321(58.8,3.555) 322(58.165,3.555) 323(57.53,3.555) 324(56.895,3.555) 325(56.26,3.555) 326(55.625,3.555) 327(54.99,3.555) 328(54.355,3.555) 329(53.72,3.555) 330(53.085,3.555) 331(52.45,3.555) 332(51.815,3.555) 333(51.18,3.555) 334(50.545,3.555) 335(49.91,3.555) 336(49.275,3.555) 337(48.64,3.555) 338(48.005,3.555) 339(47.37,3.555) 340(46.735,3.555) 341(46.1,3.555) 342(45.465,3.555) 343(44.83,3.555) 344(44.195,3.555) 345(43.56,3.555) 346(42.925,3.555) 347(42.29,3.555) 348(41.655,3.555) 349(41.02,3.555) 350(40.385,3.555) 351(39.75,3.555) 352(39.115,3.555) 353(38.48,3.555) 354(37.845,3.555) 355(37.21,3.555) 356(36.575,3.555) 357(35.94,3.555) 358(35.305,3.555) 359(34.67,3.555) 360(34.035,3.555) 361(33.4,3.555) 362(32.765,3.555) 363(32.13,3.555) 364(31.495,3.555) 365(30.86,3.555) 366(30.225,3.555) 367(29.59,3.555) 368(28.955,3.555) 369(28.32,3.555) 370(27.685,3.555) 371(27.05,3.555) 372(26.415,3.555) 373(25.78,3.555) 374(25.145,3.555) 375(24.51,3.555) 376(23.875,3.555) 377(23.24,3.555) 378(22.605,3.555) 379(21.97,3.555) 380(21.335,3.555) 381(20.7,3.555) 382(20.065,3.555) 383(19.43,3.555) 384(18.795,3.555) 385(18.16,3.555) 386(17.525,3.555) 387(16.89,3.555) 388(16.255,3.555) 389(15.62,3.555) 390(14.985,3.555) 391(14.35,3.555) 392(13.715,3.555) 393(13.08,3.555) 394(12.445,3.555) 395(11.81,3.555) 396(11.175,3.555) 397(10.54,3.555) 398(9.905,3.555) 399(9.27,3.555) 400(8.635,3.555) 401(8,3.555) 402(7.365,3.555) 403(6.73,3.555) 404(6.095,3.555) 405(5.46,3.555) 406(4.825,3.555) 407(4.19,3.555) 408(3.555,3.555)
Top Overlay:
  circle w0.25: c-2.125,0 r0.15
  lines w0.25: 1.675,-66.02 1.675,1.88 69.575,1.88 69.575,-66.02 1.675,-66.02

## DIP-8 [mm]
pads (8):
  rect 1.5x1.5 hole 0.9: 1(0,0)
  round 1.5 hole 0.9: 2(0,-2.54) 3(0,-5.08) 4(0,-7.62) 5(7.62,-7.62) 6(7.62,-5.08) 7(7.62,-2.54) 8(7.62,0)
Top Overlay:
  lines w0.25: 1.16,-8.96 1.16,1.34 3.175,1.34 ccw(c3.81,1.34) 4.445,1.34 6.46,1.34 6.46,-8.96 1.16,-8.96

## DIP-8/D11 [mm]
pads (8):
  rect 1.5x1.5 hole 0.9: 1(0,0)
  round 1.5 hole 0.9: 2(0,-2.54) 3(0,-5.08) 4(0,-7.62) 5(7.62,-7.62) 6(7.62,-5.08) 7(7.62,-2.54) 8(7.62,0)
Top Overlay:
  lines w0.25: 1.16,-9.31 1.16,1.69 3.175,1.69 ccw(c3.81,1.69) 4.445,1.69 6.46,1.69 6.46,-9.31 1.16,-9.31

## DIP-14 [mm]
pads (14):
  rect 1.5x1.5 hole 0.9: 1(0,0)
  round 1.5 hole 0.9: 2(0,-2.54) 3(0,-5.08) 4(0,-7.62) 5(0,-10.16) 6(0,-12.7) 7(0,-15.24) 8(7.62,-15.24) 9(7.62,-12.7) 10(7.62,-10.16) 11(7.62,-7.62) 12(7.62,-5.08) 13(7.62,-2.54) 14(7.62,0)
Top Overlay:
  lines w0.25: 1.16,-17.72 1.16,2.48 3.175,2.48 ccw(c3.81,2.48) 4.445,2.48 6.46,2.48 6.46,-17.72 1.16,-17.72

## DIP-14/D19.7 [mm]
pads (14):
  rect 1.5x1.5 hole 0.9: 1(0,0)
  round 1.5 hole 0.9: 2(0,-2.54) 3(0,-5.08) 4(0,-7.62) 5(0,-10.16) 6(0,-12.7) 7(0,-15.24) 8(7.62,-15.24) 9(7.62,-12.7) 10(7.62,-10.16) 11(7.62,-7.62) 12(7.62,-5.08) 13(7.62,-2.54) 14(7.62,0)
Top Overlay:
  lines w0.25: 1.16,-17.47 1.16,2.23 3.175,2.23 ccw(c3.81,2.23) 4.445,2.23 6.46,2.23 6.46,-17.47 1.16,-17.47

## DIP-16 [mm]
pads (16):
  rect 1.5x1.5 hole 0.9: 1(0,0)
  round 1.5 hole 0.9: 2(0,-2.54) 3(0,-5.08) 4(0,-7.62) 5(0,-10.16) 6(0,-12.7) 7(0,-15.24) 8(0,-17.78) 9(7.62,-17.78) 10(7.62,-15.24) 11(7.62,-12.7) 12(7.62,-10.16) 13(7.62,-7.62) 14(7.62,-5.08) 15(7.62,-2.54) 16(7.62,0)
Top Overlay:
  lines w0.25: 1.16,-19.19 1.16,1.41 3.175,1.41 ccw(c3.81,1.41) 4.445,1.41 6.46,1.41 6.46,-19.19 1.16,-19.19

## DIP-16/X1.5 [mm]
pads (16):
  rect 1.5x1.5 hole 0.9: 1(0,0)
  round 1.5 hole 0.9: 2(0,-2.54) 3(0,-5.08) 4(0,-7.62) 5(0,-10.16) 6(0,-12.7) 7(0,-15.24) 8(0,-17.78) 9(7.62,-17.78) 10(7.62,-15.24) 11(7.62,-12.7) 12(7.62,-10.16) 13(7.62,-7.62) 14(7.62,-5.08) 15(7.62,-2.54) 16(7.62,0)
Top Overlay:
  lines w0.25: 1.16,-18.74 1.16,0.96 3.175,0.96 ccw(c3.81,0.96) 4.445,0.96 6.46,0.96 6.46,-18.74 1.16,-18.74

## DIP-20 [mm]
pads (20):
  rect 1.5x1.5 hole 0.9: 1(0,0)
  round 1.5 hole 0.9: 2(0,-2.54) 3(0,-5.08) 4(0,-7.62) 5(0,-10.16) 6(0,-12.7) 7(0,-15.24) 8(0,-17.78) 9(0,-20.32) 10(0,-22.86) 11(7.62,-22.86) 12(7.62,-20.32) 13(7.62,-17.78) 14(7.62,-15.24) 15(7.62,-12.7) 16(7.62,-10.16) 17(7.62,-7.62) 18(7.62,-5.08) 19(7.62,-2.54) 20(7.62,0)
Top Overlay:
  lines w0.25: 1.16,-24.43 6.46,-24.43 6.46,1.57 4.445,1.57 cw(c3.81,1.57) 3.175,1.57 1.16,1.57 1.16,-24.43

## DIP-20/D25 [mm]
pads (20):
  rect 1.5x1.5 hole 0.9: 1(0,0)
  round 1.5 hole 0.9: 2(0,-2.54) 3(0,-5.08) 4(0,-7.62) 5(0,-10.16) 6(0,-12.7) 7(0,-15.24) 8(0,-17.78) 9(0,-20.32) 10(0,-22.86) 11(7.62,-22.86) 12(7.62,-20.32) 13(7.62,-17.78) 14(7.62,-15.24) 15(7.62,-12.7) 16(7.62,-10.16) 17(7.62,-7.62) 18(7.62,-5.08) 19(7.62,-2.54) 20(7.62,0)
Top Overlay:
  lines w0.25: 1.16,-23.93 1.16,1.07 3.175,1.07 ccw(c3.81,1.07) 4.445,1.07 6.46,1.07 6.46,-23.93 1.16,-23.93